# Altium footprint library TRANS 50V.PcbLib: 1 footprints
Each footprint in its own frame and in the unit in brackets; x right, y up, seen from the top. Pads: shape width x height; smd on the part's side, far side on the other; paste and mask are expansions set on the pad; w line width, h text height; cw(c..) or ccw(c..) is an arc to the next point about the centre after c.
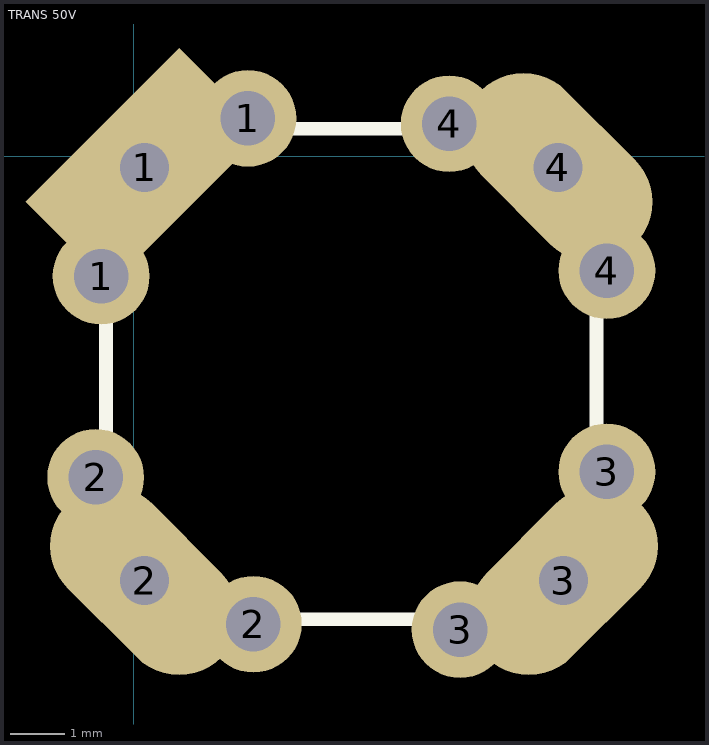
[diagram p0: the footprint, top view; thin cyan lines are the x and y axes]

## TRANS 50V [mm]
pads (12):
  round 1.778 hole 1: 1(-0.6,-2.2) 1(2.1,0.7) 2(-0.7,-5.9) 2(2.2,-8.6) 3(6,-8.7) 3(8.7,-5.8) 4(5.8,0.6) 4(8.7,-2.1)
  rect 4x2.2 hole 0.9 rot 45: 1(0.2,-0.2)
  oval 4x2.2 hole 0.9 rot 135: 2(0.2,-7.8) 4(7.8,-0.2)
  oval 4x2.2 hole 0.9 rot 45: 3(7.9,-7.8)
Top Overlay:
  lines w0.254: -0.508,-5.969 -0.508,-2.032 2.032,0.508 5.969,0.508 8.509,-2.032 8.509,-5.969 5.969,-8.509 2.032,-8.509 -0.508,-5.969
3D body: height 5, standoff 0, extent -0.508,-8.509 8.636,0.508